# EAGLE library part SWITCHES-LSM7-629C (library Discrete)
311080003
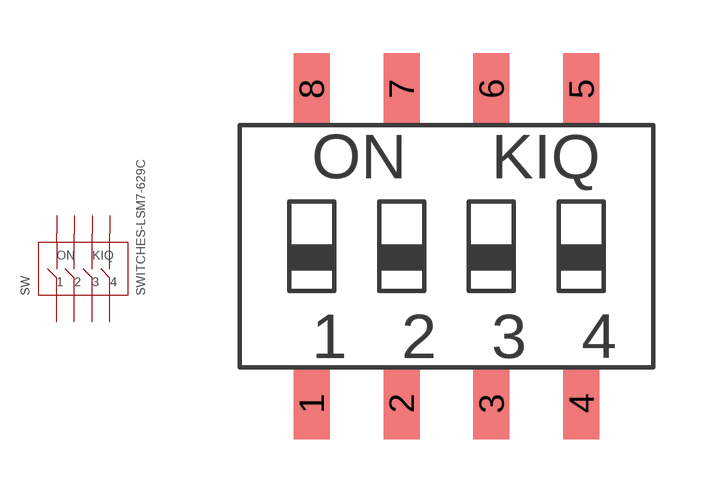
[diagram p6: symbol with the pads of 8P-SMD-L11.8*W6.8*H3.3MM; footprint 8P-SMD-L11.8*W6.8*H3.3MM]

Designator prefix SW

## SWITCHES-LSM7-629C-LSM7-629C  [8P-SMD-L11.8*W6.8*H3.3MM]
1  1
2  2
3  3
4  4
5  5
6  6
7  7
8  8

## Footprint 8P-SMD-L11.8*W6.8*H3.3MM (pad centres in mm)
smd 1.016 x 2.032: 1 -3.81,-4.445; 2 -1.27,-4.445; 3 1.27,-4.445; 4 3.81,-4.445; 5 3.81,4.445; 6 1.27,4.445; 7 -1.27,4.445; 8 -3.81,4.445